# Altium schematic symbol library Components - 08.08.24 - 16.SchLib: 1 symbol
Pins are listed as number, name and electrical type; pins without a type are passive.

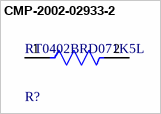
[diagram p0: symbol CMP-2002-02933-2]

## CMP-2002-02933-2
designator R?, comment RT0402BRD071K5L
RES SMD 1.5K OHM 0.1% 1/16W 0402; Manufacturer: Yageo; Value: 1.5KΩ; Voltage Rating: 50V; Temperature Coefficient: 25 ppm/°C; Tolerance: 0.001; Power Rating: 0.063W; Temperature Range High: +155°C; Category: Res; Manufacturer Part Number: RT0402BRD071K5L; Composition: Thin Film; ComponentLink2URL: http://www.yageo.com/documents/recent/PYu-RT_1-to-0.01_RoHS_L_9.pdf; Temperature Range Low: -55°C; Automotive: No; Octopart: https://octopart.com/rt0402brd071k5l-yageo-1475754; ComponentLink2Description: Datasheet; RoHS: TRUE; Height: 0.35mm; Digikey Description: RES SMD 1.5K OHM 0.1% 1/16W 0402; Mouser Description: Thin Film Resistors - SMD 1/16W 1.5K ohm .1% 25ppm; Ipc Land Pattern Name: RESC10050X30; Device Class L3: Chip SMD Resistors; Footprint Url: http://www.yageo.com/exep/pages/download/literatures/PYu-R_Mount_10.pdf; Temperature: -55°C to +155°C; Device Class L1: Passive Components; Device Class L2: Resistors; Package: RT0402; Series: RT; Resistance: 1.5KΩ; Lead Free: Yes
footprint FP-RT0402-IPC_C
footprint FP-RT0402-IPC_A
footprint FP-RT0402-MFG
footprint FP-RT0402-IPC_B
pins: 1, 2